# EAGLE library part NEUTRIK_NMJ6HCD2 (library neutrik_jacks)
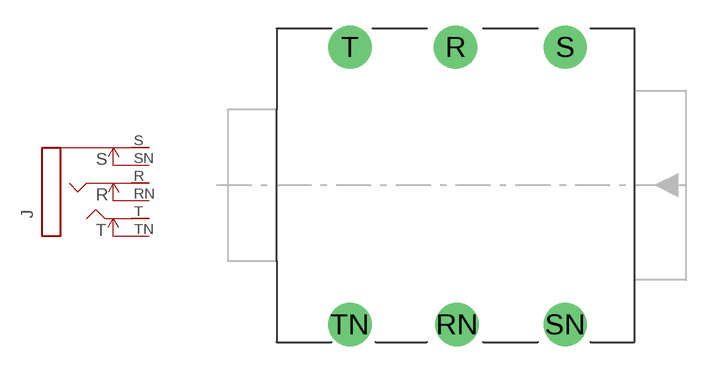
[diagram p1: symbol with the pads of NMJ6HCD2; footprint NMJ6HCD2]

Designator prefix J

## NEUTRIK_NMJ6HCD2  [NMJ6HCD2]
R  R  pas
RN  RN  pas
S  S  pas
SN  SN  pas
T  T  pas
TN  TN  pas

## Footprint NMJ6HCD2 (pad centres in mm)
Neurik connector
drill 1.5 pad 2.54: R -0.318,8.096; RN -0.238,-8.176; S 6.112,8.096; SN 6.112,-8.176; T -6.509,8.096; TN -6.509,-8.176